# EAGLE library part RIA182-18 (library con-ria182)
Gewinkelter Wannenstecker 18-polig Rastermaß: 3,5mm Lötstift / Steckerstift: 1x1mm Bohrung: 1,5mm Bemessungsstrom: 5A Nennquerschnitt Stecker: 1,5qmm eindrähtig / 1qmm feinstdrähtig
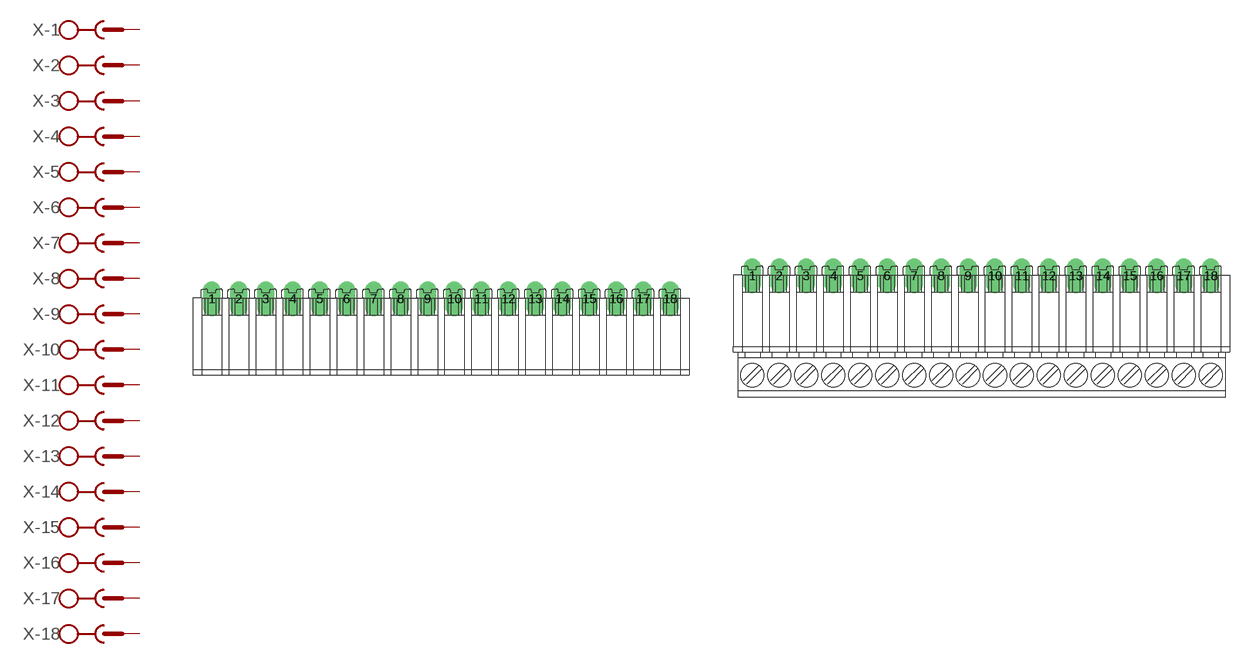
[diagram p12: symbol with the pads of RIA182-18; footprints RIA182-18, RIA182-169-18]

Designator prefix X; gates -1=SK -2=SK -3=SK -4=SK -5=SK -6=SK -7=SK -8=SK -9=SK -10=SK -11=SK -12=SK -13=SK -14=SK -15=SK -16=SK -17=SK -18=SK

## RIA182-18  [RIA182-18]
1  -1:SK  pas
2  -2:SK  pas
3  -3:SK  pas
4  -4:SK  pas
5  -5:SK  pas
6  -6:SK  pas
7  -7:SK  pas
8  -8:SK  pas
9  -9:SK  pas
10  -10:SK  pas
11  -11:SK  pas
12  -12:SK  pas
13  -13:SK  pas
14  -14:SK  pas
15  -15:SK  pas
16  -16:SK  pas
17  -17:SK  pas
18  -18:SK  pas

## RIA182-18-169  [RIA182-169-18]
Pads as for RIA182-18

## Footprint RIA182-18 (pad centres in mm)
drill 1.5 long: 1 -28,0; 2 -24.5,0; 3 -21,0; 4 -17.5,0; 5 -14,0; 6 -10.5,0; 7 -7,0; 8 -3.5,0; 9 0,0; 10 3.5,0; 11 7,0; 12 10.5,0; 13 14,0; 14 17.5,0; 15 21,0; 16 24.5,0; 17 28,0; 18 31.5,0

## Footprint RIA182-169-18 (pad centres in mm)
mit Stecker RIA 169
drill 1.5 long: 1 -28,0; 2 -24.5,0; 3 -21,0; 4 -17.5,0; 5 -14,0; 6 -10.5,0; 7 -7,0; 8 -3.5,0; 9 0,0; 10 3.5,0; 11 7,0; 12 10.5,0; 13 14,0; 14 17.5,0; 15 21,0; 16 24.5,0; 17 28,0; 18 31.5,0